# Altium footprint library chip_0201.PcbLib: 1 footprints
Each footprint in its own frame and in the unit in brackets; x right, y up, seen from the top. Pads: shape width x height; smd on the part's side, far side on the other; paste and mask are expansions set on the pad; w line width, h text height; cw(c..) or ccw(c..) is an arc to the next point about the centre after c.
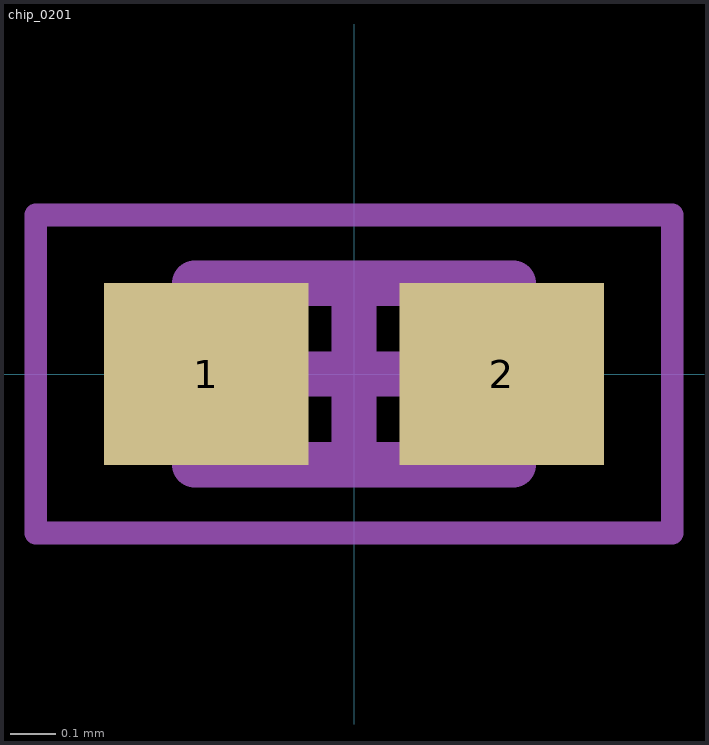
[diagram p0: the footprint, top view; thin cyan lines are the x and y axes]

## chip_0201 [mm]
height 0.6
pads (2):
  rect 0.45x0.4 smd: 1(-0.325,0) 2(0.325,0)
Mechanical 13:
  lines w0.1: -0.35,-0.2 -0.35,0.2 0.35,0.2 0.35,-0.2 -0.35,-0.2
Mechanical 15:
  lines w0.05: -0.7,-0.35 -0.7,0.35 0.7,0.35 0.7,-0.35 -0.7,-0.35
  lines w0.1: -0.2,0 0.2,0 ; 0,-0.2 0,0.2
3D body: height 0.6, standoff 0, extent -0.23,-0.2 0.23,0.2
3D body: height 0.6, standoff 0, extent -0.35,-0.2 -0.23,0.2
3D body: height 0.6, standoff 0, extent 0.23,-0.2 0.35,0.2